# EAGLE library part CH340G (library StasDuino_Lib)
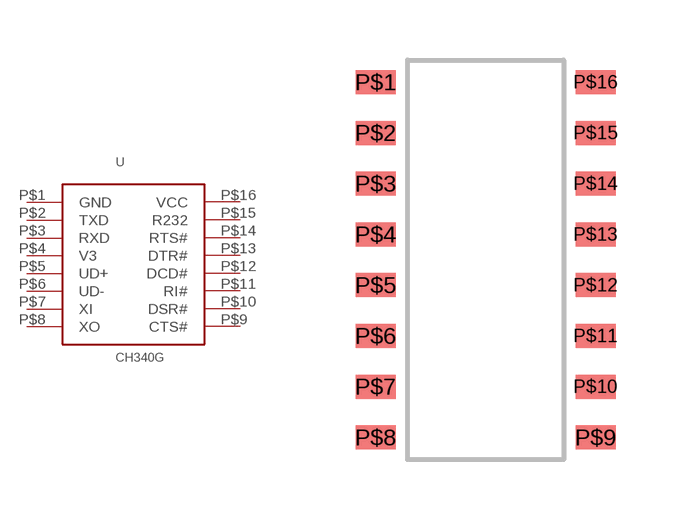
[diagram p1: symbol with the pads of CH340G/C; footprint CH340G/C]

Designator prefix -

## CH340G  [CH340G/C]
P$1  GND
P$2  TXD
P$3  RXD
P$4  V3
P$5  UD+
P$6  UD-
P$7  XI
P$8  XO
P$9  CTS#
P$10  DSR#
P$11  RI#
P$12  DCD#
P$13  DTR#
P$14  RTS#
P$15  R232
P$16  VCC

## Footprint CH340G/C (pad centres in mm)
smd 1 x 0.6: P$1 -2.75,4.445; P$2 -2.75,3.175; P$3 -2.75,1.905; P$4 -2.75,0.635; P$5 -2.75,-0.635; P$6 -2.75,-1.905; P$7 -2.75,-3.175; P$8 -2.75,-4.445; P$9 2.75,-4.445; P$10 2.75,-3.175; P$11 2.75,-1.905; P$12 2.75,-0.635; P$13 2.75,0.635; P$14 2.75,1.905; P$15 2.75,3.175; P$16 2.75,4.445